# EAGLE library part EDVSUART (library InterfaceParts)
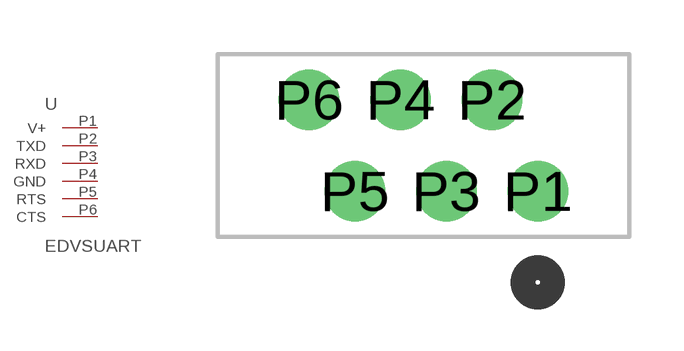
[diagram p8: symbol with the pads of MICROMATCH8; footprint MICROMATCH8]

Designator prefix -

## EDVSUART  [MICROMATCH8]
P1  V+
P2  TXD
P3  RXD
P4  GND
P5  RTS
P6  CTS

## Footprint MICROMATCH8 (pad centres in mm)
drill 0.8 pad 1.676: P1 5.08,-2.54; P2 3.81,0; P3 2.54,-2.54; P4 1.27,0; P5 0,-2.54; P6 -1.27,0